# Altium schematic symbol library TC2XX&TC3XX_MotherBoard.SCHLIB: 48 symbols
Pins are listed as number, name and electrical type; pins without a type are passive.

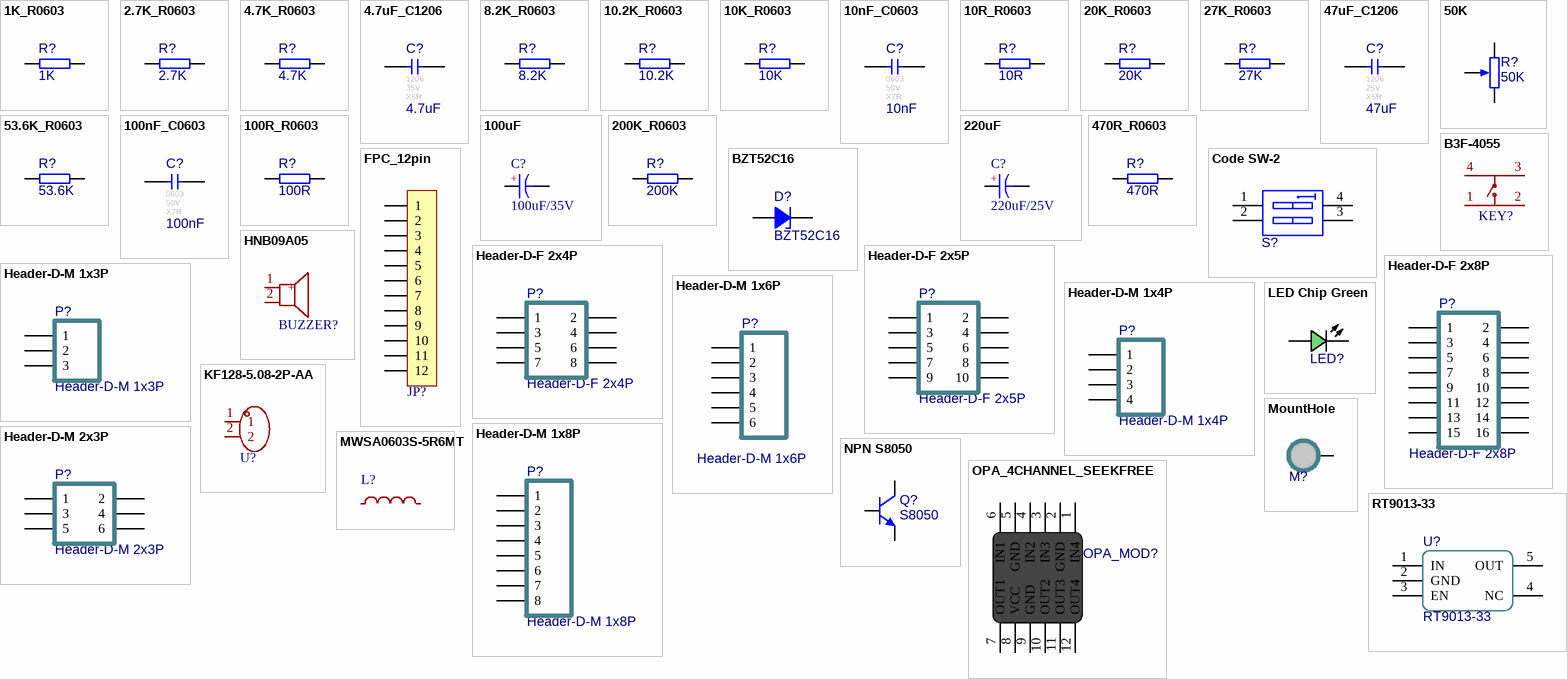
[diagram p0: symbols 1K_R0603 to RT9013-33]

## 1K_R0603
designator R?, comment value 1K  (hidden comment: 1K ±1%)
贴片电阻; Power: 1/8W; Revision: V1.0; Tolerance: ±1%
footprint RESC1608[0603]S-N (0603贴片电阻 有丝印 2脚 1.60x0.80mm IPC中密度)
pins: 1, 2

## 2.7K_R0603
designator R?, comment value 2.7K  (hidden comment: 2.7K ±1%)
贴片电阻; Power: 1/8W; Revision: V1.0; Tolerance: ±1%
footprint RESC1608[0603]S-N (0603贴片电阻 有丝印 2脚 1.60x0.80mm IPC中密度)
pins: 1, 2

## 4.7K_R0603
designator R?, comment value 4.7K  (hidden comment: 4.7K ±1%)
贴片电阻; Power: 1/8W; Revision: V1.0; Tolerance: ±1%
footprint RESC1608[0603]S-N (0603贴片电阻 有丝印 2脚 1.60x0.80mm IPC中密度)
pins: 1, 2

## 4.7uF_C1206
designator C?, comment value 4.7uF  FootPrint: 1206  Voltage: 35V  Type: X5R  (hidden comment: 4.7uF 35V X5R)
贴片瓷片电容; MLCC; 1206(3216);; Revision: V1.0
footprint CAPC3216[1206]S (1206贴片电容 有丝印 2脚 3.20x1.60mm IPC中密度)
pins: 1, 2

## 8.2K_R0603
designator R?, comment value 8.2K  (hidden comment: 8.2K ±1%)
贴片电阻; Power: 1/8W; Revision: V1.0; Tolerance: ±1%
footprint RESC1608[0603]S-N (0603贴片电阻 有丝印 2脚 1.60x0.80mm IPC中密度)
pins: 1, 2

## 10.2K_R0603
designator R?, comment value 10.2K  (hidden comment: 10.2K ±1%)
贴片电阻; Power: 1/8W; Revision: V1.0; Tolerance: ±1%
footprint RESC1608[0603]S-N (0603贴片电阻 有丝印 2脚 1.60x0.80mm IPC中密度)
pins: 1, 2

## 10K_R0603
designator R?, comment value 10K  (hidden comment: 10K ±1%)
贴片电阻; Power: 1/8W; Revision: V1.0; Tolerance: ±1%
footprint RESC1608[0603]S-N (0603贴片电阻 有丝印 2脚 1.60x0.80mm IPC中密度)
pins: 1, 2

## 10nF_C0603
designator C?, comment value 10nF  FootPrint: 0603  Voltage: 50V  Type: X7R  (hidden comment: 10nF 50V X7R)
贴片瓷片电容; MLCC; 0603(1608);; Revision: V1.0
footprint CAPC1608[0603]S-N (0603贴片电容 有丝印 2脚 1.60x0.80mm IPC中密度)
pins: 1, 2

## 10R_R0603
designator R?, comment value 10R  (hidden comment: 10R ±1%)
贴片电阻; Power: 1/8W; Revision: V1.0; Tolerance: ±1%
footprint RESC1608[0603]S-N (0603贴片电阻 有丝印 2脚 1.60x0.80mm IPC中密度)
pins: 1, 2

## 20K_R0603
designator R?, comment value 20K  (hidden comment: 20K ±1%)
贴片电阻; Power: 1/8W; Revision: V1.0; Tolerance: ±1%
footprint RESC1608[0603]S-N (0603贴片电阻 有丝印 2脚 1.60x0.80mm IPC中密度)
pins: 1, 2

## 27K_R0603
designator R?, comment value 27K  (hidden comment: 27K ±1%)
贴片电阻; Power: 1/8W; Revision: V1.0; Tolerance: ±1%
footprint RESC1608[0603]S-N (0603贴片电阻 有丝印 2脚 1.60x0.80mm IPC中密度)
pins: 1, 2

## 47uF_C1206
designator C?, comment value 47uF  FootPrint: 1206  Voltage: 25V  Type: X5R  (hidden comment: 47uF 25V X5R)
贴片瓷片电容; MLCC; 1206(3216);; Revision: V1.0
footprint CAPC3216[1206]S (1206贴片电容 有丝印 2脚 3.20x1.60mm IPC中密度)
pins: 1, 2

## 50K
designator R?
可调电阻; Revision: V1.0; Value: 50K
footprint RESPOT3296W (3296W 精密可调电阻 顶调)
pins: 1 TOP, 2 BOT, ADJ

## 53.6K_R0603
designator R?, comment value 53.6K  (hidden comment: 53.6K ±1%)
贴片电阻; Power: 1/8W; Revision: V1.0; Tolerance: ±1%
footprint RESC1608[0603]S-N (0603贴片电阻 有丝印 2脚 1.60x0.80mm IPC中密度)
pins: 1, 2

## 100nF_C0603
designator C?, comment value 100nF  FootPrint: 0603  Voltage: 50V  Type: X7R  (hidden comment: 100nF 50V X7R)
贴片瓷片电容; MLCC; 0603(1608);; Revision: V1.0
footprint CAPC1608[0603]S-N (0603贴片电容 有丝印 2脚 1.60x0.80mm IPC中密度)
pins: 1, 2

## 100R_R0603
designator R?, comment value 100R  (hidden comment: 100R ±1%)
贴片电阻; Power: 1/8W; Revision: V1.0; Tolerance: ±1%
footprint RESC1608[0603]S-N (0603贴片电阻 有丝印 2脚 1.60x0.80mm IPC中密度)
pins: 1, 2

## 100uF
designator C?, comment 100uF/35V
直插固态电容; 当前库版本V2022.12.25 @淘宝卖家:黄晶宝石: 最新版本发布https://shop463601444.taobao.com; BOM名称: 直插固态电容
footprint CT 2.5*6.3*7 - C (脚距2.5mm , 直径6.3mm , 高7mm)
pins: 1, 2
text: +

## 200K_R0603
designator R?, comment value 200K  (hidden comment: 200K ±1%)
贴片电阻; Power: 1/8W; Revision: V1.0; Tolerance: ±1%
footprint RESC1608[0603]S-N (0603贴片电阻 有丝印 2脚 1.60x0.80mm IPC中密度)
pins: 1, 2

## 220uF
designator C?, comment 220uF/25V
直插固态电容; 当前库版本V2022.12.25 @淘宝卖家:黄晶宝石: 最新版本发布https://shop463601444.taobao.com; BOM名称: 直插固态电容
footprint CT 2.5*6.3*7 - C (脚距2.5mm , 直径6.3mm , 高7mm)
pins: 1, 2
text: +

## 470R_R0603
designator R?, comment value 470R  (hidden comment: 470R ±1%)
贴片电阻; Power: 1/8W; Revision: V1.0; Tolerance: ±1%
footprint RESC1608[0603]S-N (0603贴片电阻 有丝印 2脚 1.60x0.80mm IPC中密度)
pins: 1, 2

## B3F-4055
designator KEY?  (value not drawn)
按键; Manufacturer: OMRON(欧姆龙); Device: B3F-4055_C84931; Add into BOM: yes; Circuit: 单刀单掷; Actuator Style: 矩形按钮; Switch Length: 12mm; Switch Height: 7.3mm; Contact Current: 50mA; Voltage Rating (DC): 24V; Symbol: B3F-4055; LCSC Part Name: 12*12*7.3mm 直插 轻触开关; Supplier Part: C84931; Manufacturer Part: B3F-4055; Supplier Footprint: 插件; Datasheet: https://atta.szlcsc.com/upload/public/pdf/source/20170810/C93157_1502335414592880008.pdf; Supplier: LCSC; Convert to PCB: yes; Mounting Style: 直插; Switch Width: 12mm; With Lamp: -; Mechanical Life: -
3D model KEY-TH_4P-L12.0-W12.0-H7.5-LS12.5-P5.0
footprint B3F-4055
pins: 1, 2, 3, 4

## BZT52C16
designator D?
稳压二极管 齐纳二极管  Zener Diode; Published: 8-Jun-2000; Revision: July-2002: Re-released for DXP Platform.; Publisher: Altium Limited; Price(RMB): 0.000
footprint SOD-123-L (SOD Diode;2.70mm W X 1.60mm L X 1.35mm H body)
pins: A, K

## Code SW-2
designator S?, comment SW DIP-2  (value not drawn)
2位拨码开关; Published: 24-Mar-1999; Revision: July-2002: Re-released for DXP Platform.; Publisher: Altium Limited; Price(RMB): 0.000
footprint Code SW-2-DIP-2.54 (2位直插拨码开关 间距2.54)
pins: 1 A1, 2 A2, 3 B2, 4 B1

## FPC_12pin
designator JP?, comment CON-12P  (value not drawn)
12P连接器; 封装库来自淘宝卖家：黄晶宝石: 获取最新版本https://shop463601444.taobao.com; BOM名称: 12P连接器
footprint FPC1.0-WT-12P (卧贴翻盖FPC，脚距1mm，不含脚（长16.9mm，宽5.2mm，高1.96mm）黄晶宝石)
pins: 1, 2, 3, 4, 5, 6, 7, 8, 9, 10, 11, 12

## Header-D-F 2x4P
designator P?
2x4pin, 直插, 双排座; Revision: V1.0; Value: Header-D-F 2x4P
footprint HDR2X4-F (2x4pin, 2.54mm间距, 直插, 直排座)
pins: 1, 2, 3, 4, 5, 6, 7, 8

## Header-D-F 2x5P
designator P?
2x5pin, 直插, 双排座; Revision: V1.0; Value: Header-D-F 2x5P
footprint HDR2X5-F (2x5pin, 2.54mm间距, 直插, 直排座)
pins: 1, 2, 3, 4, 5, 6, 7, 8, 9, 10

## Header-D-F 2x8P
designator P?
2x8pin, 直插, 双排座; Revision: V1.0; Value: Header-D-F 2x8P
footprint HDR2X8-F (2x8pin, 2.54mm间距, 直插, 直排座)
footprint HDR2X8-F-High (加高 2x8 直插排座)
pins: 1, 2, 3, 4, 5, 6, 7, 8, 9, 10, 11, 12, 13, 14, 15, 16

## Header-D-M 1x3P
designator P?
1x3pin, 直插, 排针; Revision: V1.0; Value: Header-D-M 1x3P
footprint HDR1X3-M (1x3pin, 2.54mm间距, 直插, 直排针)
pins: 1, 2, 3

## Header-D-M 1x4P
designator P?
1x4pin, 直插, 排针; Revision: V1.0; Value: Header-D-M 1x4P
footprint HDR1X4-M (1x4pin, 2.54mm间距, 直插, 直排针)
pins: 1, 2, 3, 4

## Header-D-M 1x6P
designator P?
1x6pin, 直插, 排针; Revision: V1.0; Value: Header-D-M 1x6P
footprint HDR1X6-M (1x6pin, 直插, 直排针, 2.54mm间距)
pins: 1, 2, 3, 4, 5, 6

## Header-D-M 1x8P
designator P?
1x8pin, 直插, 排针; Revision: V1.0; Value: Header-D-M 1x8P
footprint HDR1X8-M (1x7pin, 2.54mm间距, 直插, 直排针)
footprint HDR1X8-M-SMT (1x8pin, 2.54mm间距, SMT, 直排针)
pins: 1, 2, 3, 4, 5, 6, 7, 8

## Header-D-M 2x3P
designator P?
2x3pin, 直插, 双排针; Revision: V1.0; Value: Header-D-M 2x3P
footprint HDR2X3-M (2x3pin, 2.54mm间距, 直插, 直排针)
pins: 1, 2, 3, 4, 5, 6

## HNB09A05
designator BUZZER?, comment 3kHz  (value not drawn)
蜂鸣器; Manufacturer: 华能; Symbol: HNB09A05; Add into BOM: yes; Oscillator Circuit: 有源(内含驱动线路); Technology Type: 电磁式; Operating Voltage: 4V~8V; Sound Pressure Level (SPL): 85dB; Device: HNB09A05; LCSC Part Name: HNB09A05; Supplier Part: C96493; Manufacturer Part: HNB09A05; Supplier Footprint: 插件,D=9mm; JLCPCB Part Class: 扩展库; Datasheet: https://atta.szlcsc.com/upload/public/pdf/source/20170522/1495448327549.pdf; Supplier: LCSC; Convert to PCB: yes; Value: 3kHz; Diameter (φD): 9mm; Height: 5.7mm
footprint BUZ-TH_BD9.6-P5.00-D0.7-FD
3D model BUZ-TH_D9.0-H5.5-P5.0
pins: 1 +, 2

## KF128-5.08-2P-AA
designator U?  (value not drawn)
电源端子; Manufacturer: KEFA(科发); Add into BOM: yes; Structure: 1x2P; Pitch: 5.08mm; Current Rating (Max): 24A; Voltage Rating (Max): 250V; Wire Gauge - AWG: 12~22; Wire Gauge - mm2: 2.5; Number of PINs Per Row: 2; Symbol: KF128-5.08-2P; Device: KF128-5.08-2P-AA; Supplier: LCSC; Supplier Part: C474952; Manufacturer Part: KF128-5.08-2P-AA; LCSC Part Name: 5.08mm 1x2P 排数:1 每排P数:2 直插; Supplier Footprint: 插件,P=5.08mm; Datasheet: https://atta.szlcsc.com/upload/public/pdf/source/20230317/DADFED05827EAD48C1D5B8C3D4CF88F4.pdf; Convert to PCB: yes; Color: 绿色; Mounting Style: 直插; Number of Pins: 2P; Number of Rows: 1; Operating Temperature Range: -40℃~+105℃
footprint CONN-TH_P5.08_KF128-5.08-2P
pins: 1, 2

## LED Chip Green
designator LED?, comment 翠绿贴片LED  (value not drawn)
Published: 8-Jun-2000; Revision: July-2002: Re-released for DXP Platform.; Publisher: Altium Limited; Price(RMB): 0.00
footprint LEDC1608(0603) (LED,Chip;1.60mm L X 0.80mm W X 0.80mm H)
footprint LEDC2012(0805) (LED,Chip;2.00mm L X 1.25mm W X 1.20mm H)
footprint LEDC3216(1206) (LED,Chip;3.20mm L X 1.60mm W X 1.30mm H)
footprint LEDC1608(0603)-L (LED,Chip;1.60mm L X 0.80mm W X 0.80mm H)
footprint LEDC2012(0805)-L (LED,Chip;2.00mm L X 1.25mm W X 1.20mm H)
footprint LEDC3216(1204) (LED,Chip;3.20mm L X 1.60mm W X 1.30mm H)
footprint LEDC3528-2 (3528 2脚 贴片LED)
pins: A, C

## MountHole
designator M?  (value not drawn)  (no BOM)
固定孔
footprint M3-MountHole
footprint M3-MountSlot (M3-MountHole)
footprint M3-MountSlot-Plated (M3-MountHole)
footprint M3-MountHole-4mm (M3-MountHole)
footprint M3-MountHole-5mm (M3-MountHole)
footprint M3-MountHole-6mm (M3-MountHole)
footprint M3-MountHole-7mm (M3-MountHole)
footprint M3-MountHole-8mm (M3-MountHole)
footprint M3-MountHole-9mm (M3-MountHole)
footprint M3-MountHole-10mm (M3-MountHole)
footprint M3-MountHole-11mm (M3-MountHole)
footprint M3-MountHole-12mm (M3-MountHole)
footprint M3-MountHole-13mm (M3-MountHole)
footprint M3-MountHole-14mm (M3-MountHole)
footprint M3-MountHole-15mm (M3-MountHole)
footprint M3-MountHole-16mm (M3-MountHole)
footprint M3-MountHole-17mm (M3-MountHole)
footprint M3-MountHole-18mm (M3-MountHole)
footprint M3-MountHole-19mm (M3-MountHole)
footprint M3-MountHole-20mm (M3-MountHole)
footprint M3-MountHole-Plated-D5.2 (M3-MountHole)
footprint M3-MountHole-Plated-D5.5 (M3-MountHole 外径5.5mm)
footprint M3-MountHole-Plated-D6 (M3-MountHole 外径6mm)
pins: 1

## MWSA0603S-5R6MT
designator L?, comment 5.6uH  (value not drawn)
电感值:5.6uH;精度:±20%;额定电流:6A;饱和电流(Isat):6.5A;类型:-;; Manufacturer: Sunlord(顺络); Symbol: MWSA0603S-5R6MT; Add into BOM: yes; Tolerance: ±20%; Rated Current: 6A; Saturation Current (Isat): 6.5A; DC Resistance (DCR): 42mΩ; Device: MWSA0603S-5R6MT; LCSC Part Name: 5.6uH ±20% 6.5A; Supplier Part: C408448; Manufacturer Part: MWSA0603S-5R6MT; Supplier Footprint: SMD,7x6.6mm; Datasheet: https://atta.szlcsc.com/upload/public/pdf/source/20231024/D9DB0CBBB5804BFBC9233D4A02F4216A.pdf; Supplier: LCSC; Convert to PCB: yes; Value: 5.6uH; Type: -; Ratings: -
footprint IND-SMD_L7.0-W6.6
3D model IND-SMD_L7.0-W6.6-H3.0
pins: 1, 2

## NPN S8050
designator Q?, comment S8050
NPN 三极管; Published: 8-Jun-2000; Revision: July-2002: Re-released for DXP Platform.; Publisher: Altium Limited; Price(RMB): 0.000; PartNumber: S8050
footprint SOT-23 (SOT23, 3-Leads, Body 2.90x2.40mm, Pitch 0.95mm, IPC Medium Density)
pins: 1 B, 2 E, 3 C

## OPA_4CHANNEL_SEEKFREE
designator OPA_MOD?, comment OPA_MOD  (value not drawn)
逐飞科技 运放模块
footprint SEEKFREE_4CHANEL_OPAMOD
pins: 1 IN4, 2 GND, 3 IN3, 4 IN2, 5 GND, 6 IN1, 7 OUT1, 8 VCC, 9 GND, 10 OUT2, 11 OUT3, 12 OUT4

## RT9013-33
designator U?
3.3V 500mA SOT-23-5 LDO
footprint SOT-23-5 (SOT23, 5-Leads, Body 2.92x2.79mm, Pitch 0.95mm, IPC Medium Density)
pins: 1 IN, 2 GND, 3 EN, 4 NC, 5 OUT

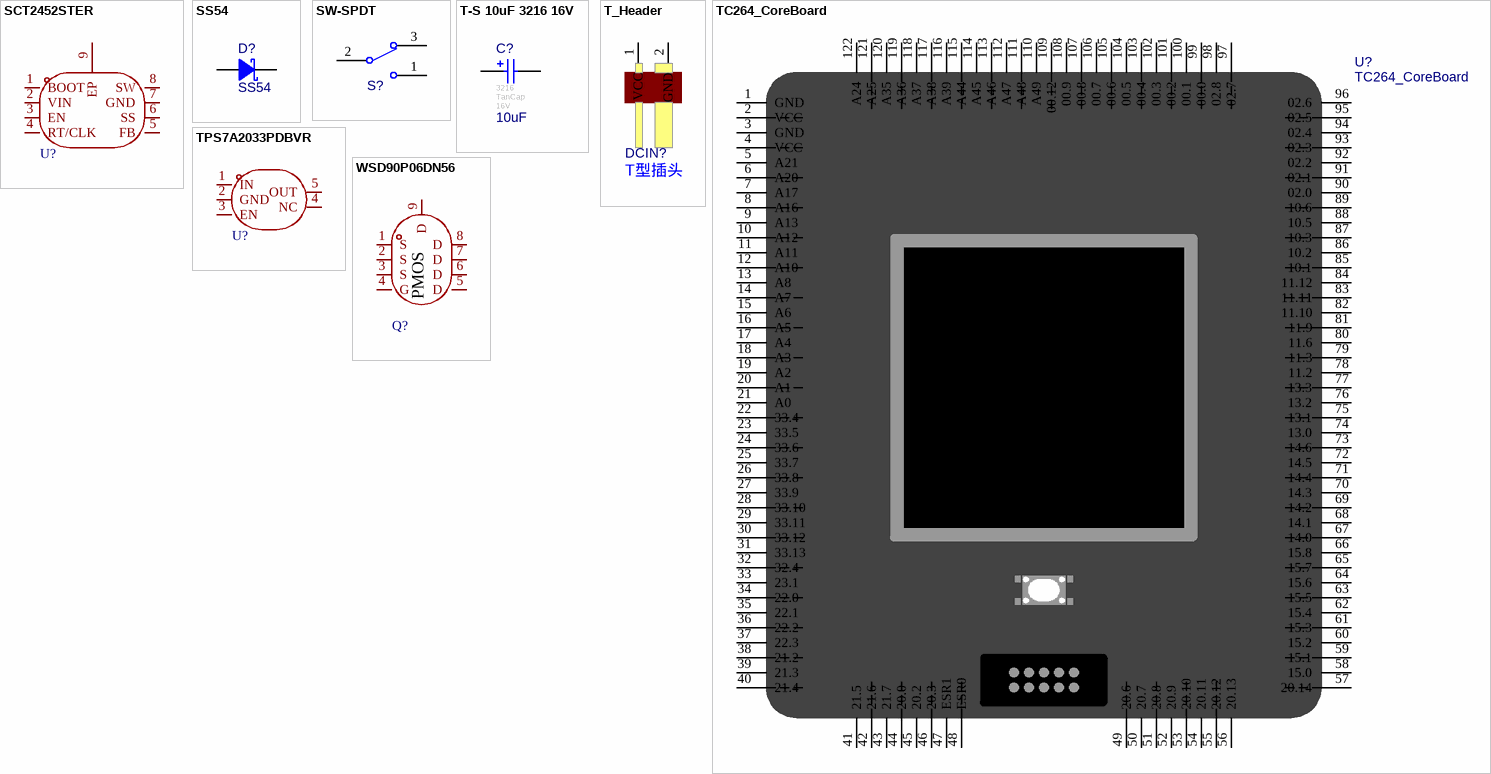
[diagram p1: symbols SCT2452STER to WSD90P06DN56]

## SCT2452STER
designator U?  (value not drawn)
Manufacturer: SCT(芯洲科技); Add into BOM: yes; Symbol: SCT2452STER; Device: SCT2452STER; LCSC Part Name: SCT2452STER; Supplier Part: C719314; Manufacturer Part: SCT2452STER; Supplier Footprint: ESOP-8; Datasheet: https://atta.szlcsc.com/upload/public/pdf/source/20200810/C719314_51D59A304A4FCEEE53813D61EC9CAF9E.pdf; Supplier: LCSC; Convert to PCB: yes
footprint ESOP-8_L4.9-W3.9-P1.27-LS6.0-BL-EP
3D model ESOP-8_L4.9-W3.9-H1.6-LS6.0-P1.27
pins: 1 BOOT, 2 VIN, 3 EN, 4 RT/CLK, 5 FB, 6 SS, 7 GND, 8 SW, 9 EP

## SS54
designator D?
SS54 肖特基二极管; Revision: V1.0; Value: SS54
footprint SMA-L[DO-214AC] (SMA 二极管 贴片 IPC高密度)
pins: A, K

## SW-SPDT
designator S?  (value not drawn)
单刀双掷开关 3脚船型、钮子、拨动开关 SPDT Subminiature Toggle Switch; Published: 24-Mar-1999; Publisher: Altium Limited; Price(RMB): 0.000
footprint ToggleSwitch 7102
footprint SS12D06 (拨动开关，弯脚，脚距4.8)
footprint SS12D10 (拨动开关 直脚 脚距4.8)
footprint SS12D07VG4
footprint MSK-12C02 (MSK-12C02 侧贴2档7脚开关 带定位柱)
pins: 1, 2, 3

## T-S 10uF 3216 16V
designator C?, comment value 10uF  FootPrint: 3216  Type: TanCap  Voltage: 16V  (hidden comment: 10uF 16V 钽电容)
贴片钽电容 10uF 3216 16V; Revision: July-2002: Re-released for DXP Platform.
footprint CAP-T-S 3216 (贴片 钽电容 A型 3216)
pins: 1, 2

## T_Header
designator DCIN?, comment T型插头
footprint T_DC
footprint Wired T-Header (带线T头贴片焊盘)
footprint Wired T-Header ThroughHole (带线T头直插焊盘)
pins: 1 VCC, 2 GND

## TC264_CoreBoard
designator U?
逐飞科技TC264核心板
footprint TC264_CoreBoard (逐飞科技TC264核心板)
pins: 1 GND, 2 VCC, 3 GND, 4 VCC, 5 A21, 6 A20, 7 A17, 8 A16, 9 A13, 10 A12, 11 A11, 12 A10, 13 A8, 14 A7, 15 A6, 16 A5, 17 A4, 18 A3, 19 A2, 20 A1, 21 A0, 22 33.4, 23 33.5, 24 33.6, 25 33.7, 26 33.8, 27 33.9, 28 33.10, 29 33.11, 30 33.12, 31 33.13, 32 32.4, 33 23.1, 34 22.0, 35 22.1, 36 22.2, 37 22.3, 38 21.2, 39 21.3, 40 21.4, 41 21.5, 42 21.6, 43 21.7, 44 20.0, 45 20.2, 46 20.3, 47 ESR1, 48 ESR0, 49 20.6, 50 20.7, 51 20.8, 52 20.9, 53 20.10, 54 20.11, 55 20.12, 56 20.13, 57 20.14, 58 15.0, 59 15.1, 60 15.2, 61 15.3, 62 15.4, 63 15.5, 64 15.6, 65 15.7, 66 15.8, 67 14.0, 68 14.1, 69 14.2, 70 14.3, 71 14.4, 72 14.5, 73 14.6, 74 13.0, 75 13.1, 76 13.2, 77 13.3, 78 11.2, 79 11.3, 80 11.6, 81 11.9, 82 11.10, 83 11.11, 84 11.12, 85 10.1, 86 10.2, 87 10.3, 88 10.5, 89 10.6, 90 02.0, 91 02.1, 92 02.2, 93 02.3, 94 02.4, 95 02.5, 96 02.6, 97 02.7, 98 02.8, 99 00.0, 100 00.1, 101 00.2, 102 00.3, 103 00.4, 104 00.5, 105 00.6, 106 00.7, 107 00.8, 108 00.9, 109 00.12, 110 A49, 111 A48, 112 A47, 113 A46, 114 A45, 115 A44, 116 A39, 117 A38, 118 A37, 119 A36, 120 A35, 121 A25, 122 A24

## TPS7A2033PDBVR
designator U?  (value not drawn)
输出类型:固定;最大输入电压:6V;输出电压:3.3V;输出电流:300mA;输出极性:正极;; Manufacturer: TI(德州仪器); Add into BOM: yes; Output Type: 固定; Maximum Input Voltage: 6V; Output Voltage: 3.3V; Output Current: 300mA; Dropout Voltage: 140mV@(300mA); standby current: 15uA; Output Polarity: 正极; Number of Outputs: 1; Symbol: TPS7A2033PDBVR; Device: TPS7A2033PDBVR; LCSC Part Name: 具有高 PSRR 的 300mA、超低噪声、低 IQ、低压降 (LDO) 线性稳压器; Supplier Part: C2862740; Manufacturer Part: TPS7A2033PDBVR; Supplier Footprint: SOT-23-5; Datasheet: https://www.ti.com/cn/lit/gpn/tps7a20; Supplier: LCSC; Convert to PCB: yes; Feature: 防静电保护；软启动；浪涌保护；低ESR；热保护(TSD)；欠压闭锁；过流保护(OCP)；带使能；防倒灌; Operating Temperature: -40℃~+125℃@(Tj)
footprint SOT-23-5_L2.9-W1.6-P0.95-LS2.8-BR
3D model SOT-23-5_L2.9-W1.6-P0.95-LS2.8-BR
pins: 1 IN, 2 GND, 3 EN, 4 NC, 5 OUT

## WSD90P06DN56
designator Q?  (value not drawn)
类型:1个P沟道;漏源电压(Vdss):60V;连续漏极电流(Id):90A;功率(Pd):96W;导通电阻(RDS(on)@Vgs,Id):10.5mΩ@10V,30A;阈值电压(Vgs(th)@Id):1.85V@250uA;; Manufacturer: WINSOK(微硕); Add into BOM: yes; Type: 1个P沟道; Drain Source Voltage (Vdss): 60V; Continuous Drain Current (Id): 90A; Power Dissipation (Pd): 96W; Total Gate Charge (Qg@Vgs): 121nC@10V; Input Capacitance (Ciss@Vds): 5.6nF@30V; Reverse Transfer Capacitance (Crss@Vds): 480pF@30V; Symbol: WSD90P06DN56; Device: WSD90P06DN56; LCSC Part Name: 1个P沟道 耐压:60V 电流:90A; Supplier Part: C719104; Manufacturer Part: WSD90P06DN56; Supplier Footprint: PDFN-8(4.9x5.8); JLCPCB Part Class: 扩展库; Datasheet: https://atta.szlcsc.com/upload/public/pdf/source/20220729/279518A307255699200471987C1169DA.pdf; Supplier: LCSC; Convert to PCB: yes; Drain Source On Resistance (RDS(on)@Vgs,Id): 10.5mΩ@10V,30A; Gate Threshold Voltage (Vgs(th)@Id): 1.85V@250uA; Operating Temperature: -55℃~+150℃@(Tj)
footprint PDFN-8_L5.8-W4.9-P1.27-LS6.1-BL
3D model PDFN-8_L5.8-W4.9-P1.27-LS6.1-BL
pins: 1 S, 2 S, 3 S, 4 G, 5 D, 6 D, 7 D, 8 D, 9 D
text: PMOS